# Altium schematic symbol library SXN.SchLib: 1 symbol
Pins are listed as number, name and electrical type; pins without a type are passive.

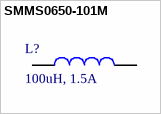
[diagram p0: symbol SMMS0650-101M]

## SMMS0650-101M
designator L?, comment 100uH, 1.5A
1.5A 100uH 2A 720mΩ ±20% SMD,7.1x6.6mm Fixed Inductors RoHS; Manufacturer: Shun Xiang Nuo; Manufacturer Part Number: SMMS0650-101M; Rated Voltage: 30VDC; ComponentLink1Description: Datasheet; ComponentLink1URL: https://www.lcsc.com/datasheet/C2894722.pdf; DC Resistance max.: 720mΩ; DC Resistance typ.: N/A; Inductance: 100uH; LCSC Part #: C2894722; Mount: SMD/SMT; Operating Temperature: -40 to +125degC; Packaging: Tape and Reel; Rated Current: 1.5A; Saturation Current: 2A; Self Resonant Frequency: N/A; Size: 0650; Supplier 1: Mouser; Supplier 1 Part Number: N/A; Supplier 1 URL: N/A; Supplier 2: Digi-Key; Supplier 2 Part Number: N/A; Supplier 2 URL: N/A; Supplier 3: thegioiic; Supplier 3 Part Number: N/A; Supplier 3 URL: N/A; Value: 100uH, 1.5A
footprint SMMS0650 (Precision Wire Wound Inductor, 2-Leads, Body 7.00x6.60mm, IPC Medium Density)
pins: 1, 2